# EAGLE library part RC1602 (library display-lcd)
16x2 matrix lcd display with controller
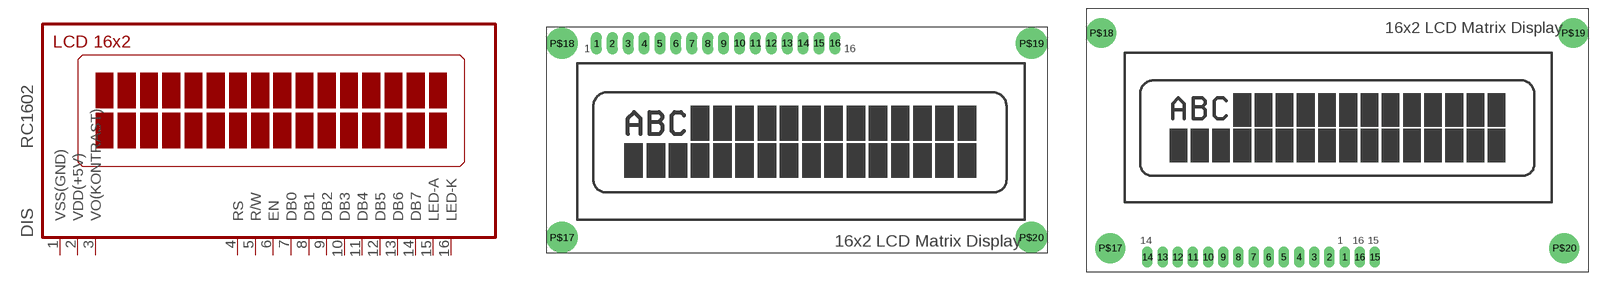
[diagram p9: symbol with the pads of RC1602B; footprints RC1602B, RC1602A]

Designator prefix DIS

## RC1602B  [RC1602B]
1  VSS(GND)  pwr
2  VDD(+5V)  pas
3  VO(KONTRAST)  pwr
4  RS  pas
5  R/W  pas
6  EN  pas
7  DB0  pas
8  DB1  pas
9  DB2  pas
10  DB3  pas
11  DB4  pas
12  DB5  pas
13  DB6  pas
14  DB7  pas
15  LED-A  pas
16  LED-K  pas

## RC1602A  [RC1602A]
Pads as for RC1602B

## Footprint RC1602B (pad centres in mm)
16x2 LCD MATRIX Display
drill 1.016 pad 1.778 long: 1 8,33.5; 2 10.54,33.5; 3 13.08,33.5; 4 15.62,33.5; 5 18.16,33.5; 6 20.7,33.5; 7 23.24,33.5; 8 25.78,33.5; 9 28.32,33.5; 10 30.86,33.5; 11 33.4,33.5; 12 35.94,33.5; 13 38.48,33.5; 14 41.02,33.5; 15 43.56,33.5; 16 46.1,33.5
drill 2.5 pad 5 round: P$17 2.5,2.5; P$18 2.5,33.5; P$19 77.5,33.5; P$20 77.5,2.5

## Footprint RC1602A (pad centres in mm)
drill 1.016 pad 1.778 long: 1 1.31,-21.63; 2 -1.23,-21.63; 3 -3.77,-21.63; 4 -6.31,-21.63; 5 -8.85,-21.63; 6 -11.39,-21.63; 7 -13.93,-21.63; 8 -16.47,-21.63; 9 -19.01,-21.63; 10 -21.55,-21.63; 11 -24.09,-21.63; 12 -26.63,-21.63; 13 -29.17,-21.63; 14 -31.71,-21.63; 15 6.39,-21.63; 16 3.85,-21.63
drill 2.5 pad 5 round: P$17 -37.91,-20.13; P$18 -39.41,15.87; P$19 39.59,15.87; P$20 38.09,-20.13